# Altium footprint library BT_MS621FE-FL11E.PcbLib: 1 footprints
Each footprint in its own frame and in the unit in brackets; x right, y up, seen from the top. Pads: shape width x height; smd on the part's side, far side on the other; paste and mask are expansions set on the pad; w line width, h text height; cw(c..) or ccw(c..) is an arc to the next point about the centre after c.
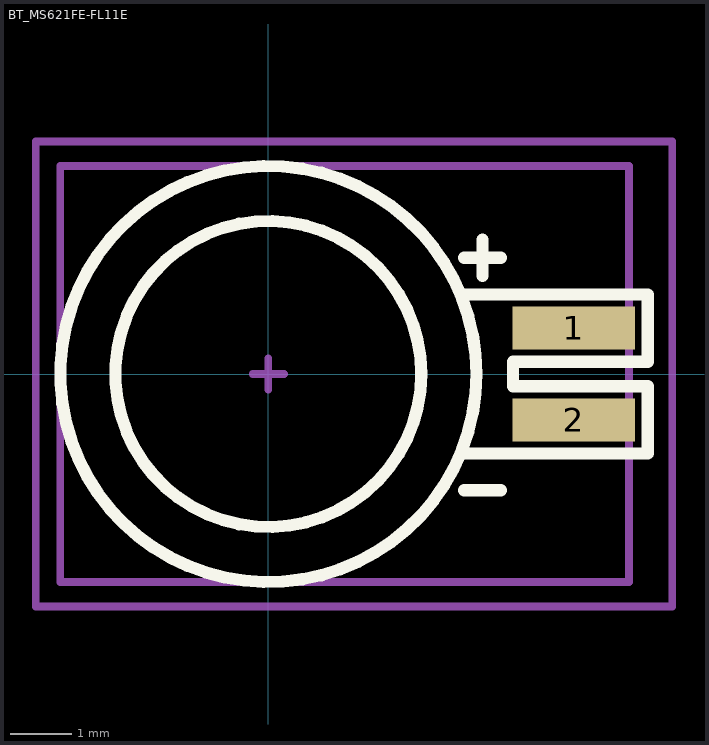
[diagram p0: the footprint, top view; thin cyan lines are the x and y axes]

## BT_MS621FE-FL11E [mm]
pads (2):
  rect 2x0.7 smd: 1(4.993,0.75) 2(4.993,-0.75)
Top Overlay:
  circle w0.2: c0,0 r2.5
  circle w0.2: c0,0 r3.4
  lines w0.2: 3.142,-1.3 6.2,-1.3 6.2,-0.2 4,-0.2 4,0.2 6.2,0.2 6.2,1.3 3.142,1.3 ; 3.2,-1.9 3.8,-1.9 ; 3.2,1.9 3.8,1.9 ; 3.5,1.6 3.5,2.2
Mechanical 13:
  lines w0.127: -3.4,-3.4 5.893,-3.4 5.893,3.4 -3.4,3.4 -3.4,-3.4
Mechanical 15:
  lines w0.127: -0.254,0 0.254,0 ; 0,-0.254 0,0.254 ; -3.8,-3.8 -3.8,3.8 6.6,3.8 6.6,-3.8 -3.8,-3.8
3D body "User Library-MS621FE-1.STEP": height 2.85, standoff 0.05, extent -3.4,-3.4 5.893,3.4